# Altium footprint library SOT-32365P230X100_3L.PcbLib: 1 footprints
Each footprint in its own frame and in the unit in brackets; x right, y up, seen from the top. Pads: shape width x height; smd on the part's side, far side on the other; paste and mask are expansions set on the pad; w line width, h text height; cw(c..) or ccw(c..) is an arc to the next point about the centre after c.
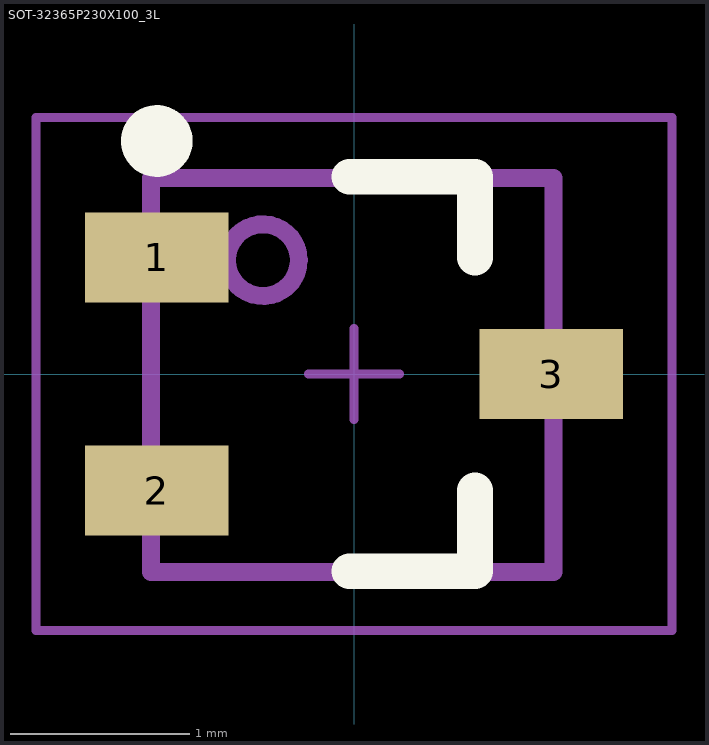
[diagram p0: the footprint, top view; thin cyan lines are the x and y axes]

## SOT-32365P230X100_3L [mm] "SOT323, 3-Leads, Body 2.2x1.35mm, Pitch 1.3mm, IPC High 1.1"
height 1
pads (3):
  rect 0.8x0.5 smd: 1(-1.1,0.65) 2(-1.1,-0.65) 3(1.1,0)
Top Overlay:
  circle w0.2: c-1.1,1.3 r0.1
  lines w0.2: -0.025,-1.1 0.675,-1.1 0.675,-0.65 ; -0.025,1.1 0.675,1.1 0.675,0.65
Mechanical 13:
  circle w0.1: c-0.508,0.635 r0.2
  lines w0.1: -1.132,-1.105 -1.132,1.095 1.113,1.095 1.113,-1.105 -1.132,-1.105
Mechanical 15:
  lines w0.05: -0.254,0 0.254,0 ; 0,-0.254 0,0.254 ; 1.775,-1.431 1.775,1.431 -1.775,1.431 -1.775,-1.431 1.775,-1.431
3D body: height 1.1, standoff 0, extent -1.132,-1.105 1.113,1.095